# Altium footprint library PCB - CAPACITOR - ELECTROLYTIC - CAPAE830X1050N.PCBLIB: 1 footprints
Each footprint in its own frame and in the unit in brackets; x right, y up, seen from the top. Pads: shape width x height; smd on the part's side, far side on the other; paste and mask are expansions set on the pad; w line width, h text height; cw(c..) or ccw(c..) is an arc to the next point about the centre after c.
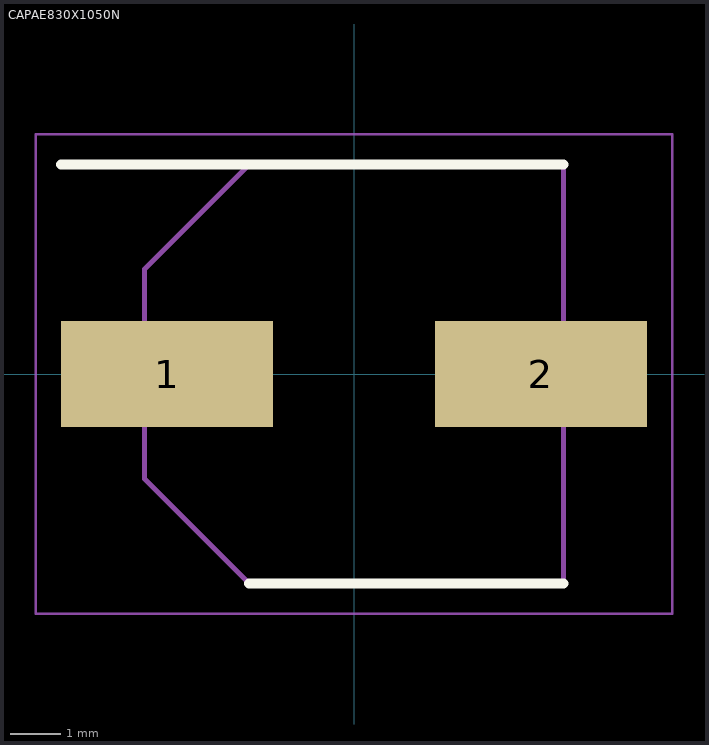
[diagram p0: the footprint, top view; thin cyan lines are the x and y axes]

## CAPAE830X1050N [mm]
pads (2):
  rect 4.2x2.1 smd: 1(-3.7,0) 2(3.7,0)
Top Overlay:
  lines w0.2: -5.8,4.15 4.15,4.15 ; -2.075,-4.15 4.15,-4.15
Mechanical 13:
  lines w0.1: -4.15,-2.075 -2.075,-4.15 4.15,-4.15 4.15,4.15 -2.075,4.15 -4.15,2.075 -4.15,-2.075
Mechanical 15:
  lines w0.05: -6.3,-4.75 -6.3,4.75 6.3,4.75 6.3,-4.75 -6.3,-4.75
3D body "EEE-FK1H101P.stp": height 10.5, standoff 0, extent -5,-4.25 5,4.25